# EAGLE library part SW-DIP9 (library RS-extra-cons)
Dip Switch, 9 position
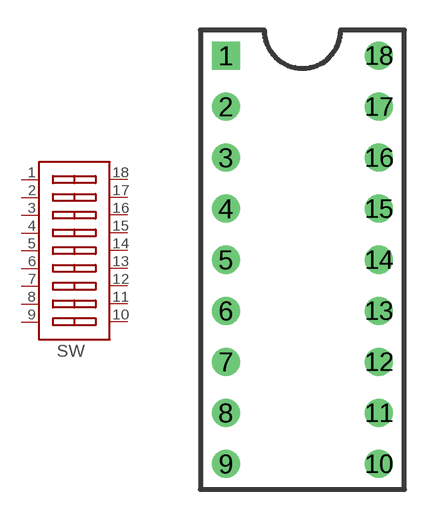
[diagram p4: symbol with the pads of DIP-18C; footprint DIP-18C]

Designator prefix SW

## SW-DIP9T  [DIP-18C]
1  1A  pas
2  2A  pas
3  3A  pas
4  4A  pas
5  5A  pas
6  6A  pas
7  7A  pas
8  8A  pas
9  9A  pas
10  9B  pas
11  8B  pas
12  7B  pas
13  6B  pas
14  5B  pas
15  4B  pas
16  3B  pas
17  2B  pas
18  1B  pas

## Footprint DIP-18C (pad centres in mm)
drill 0.889 square: 1 -3.81,10.16
drill 0.889: 2 -3.81,7.62; 3 -3.81,5.08; 4 -3.81,2.54; 5 -3.81,0; 6 -3.81,-2.54; 7 -3.81,-5.08; 8 -3.81,-7.62; 9 -3.81,-10.16; 10 3.81,-10.16; 11 3.81,-7.62; 12 3.81,-5.08; 13 3.81,-2.54; 14 3.81,0; 15 3.81,2.54; 16 3.81,5.08; 17 3.81,7.62; 18 3.81,10.16